# Altium footprint library MyPcbLib.PcbLib: 46 footprints (part 1 of 3)
Each footprint in its own frame and in the unit in brackets; x right, y up, seen from the top. Pads: shape width x height; smd on the part's side, far side on the other; paste and mask are expansions set on the pad; w line width, h text height; cw(c..) or ccw(c..) is an arc to the next point about the centre after c.
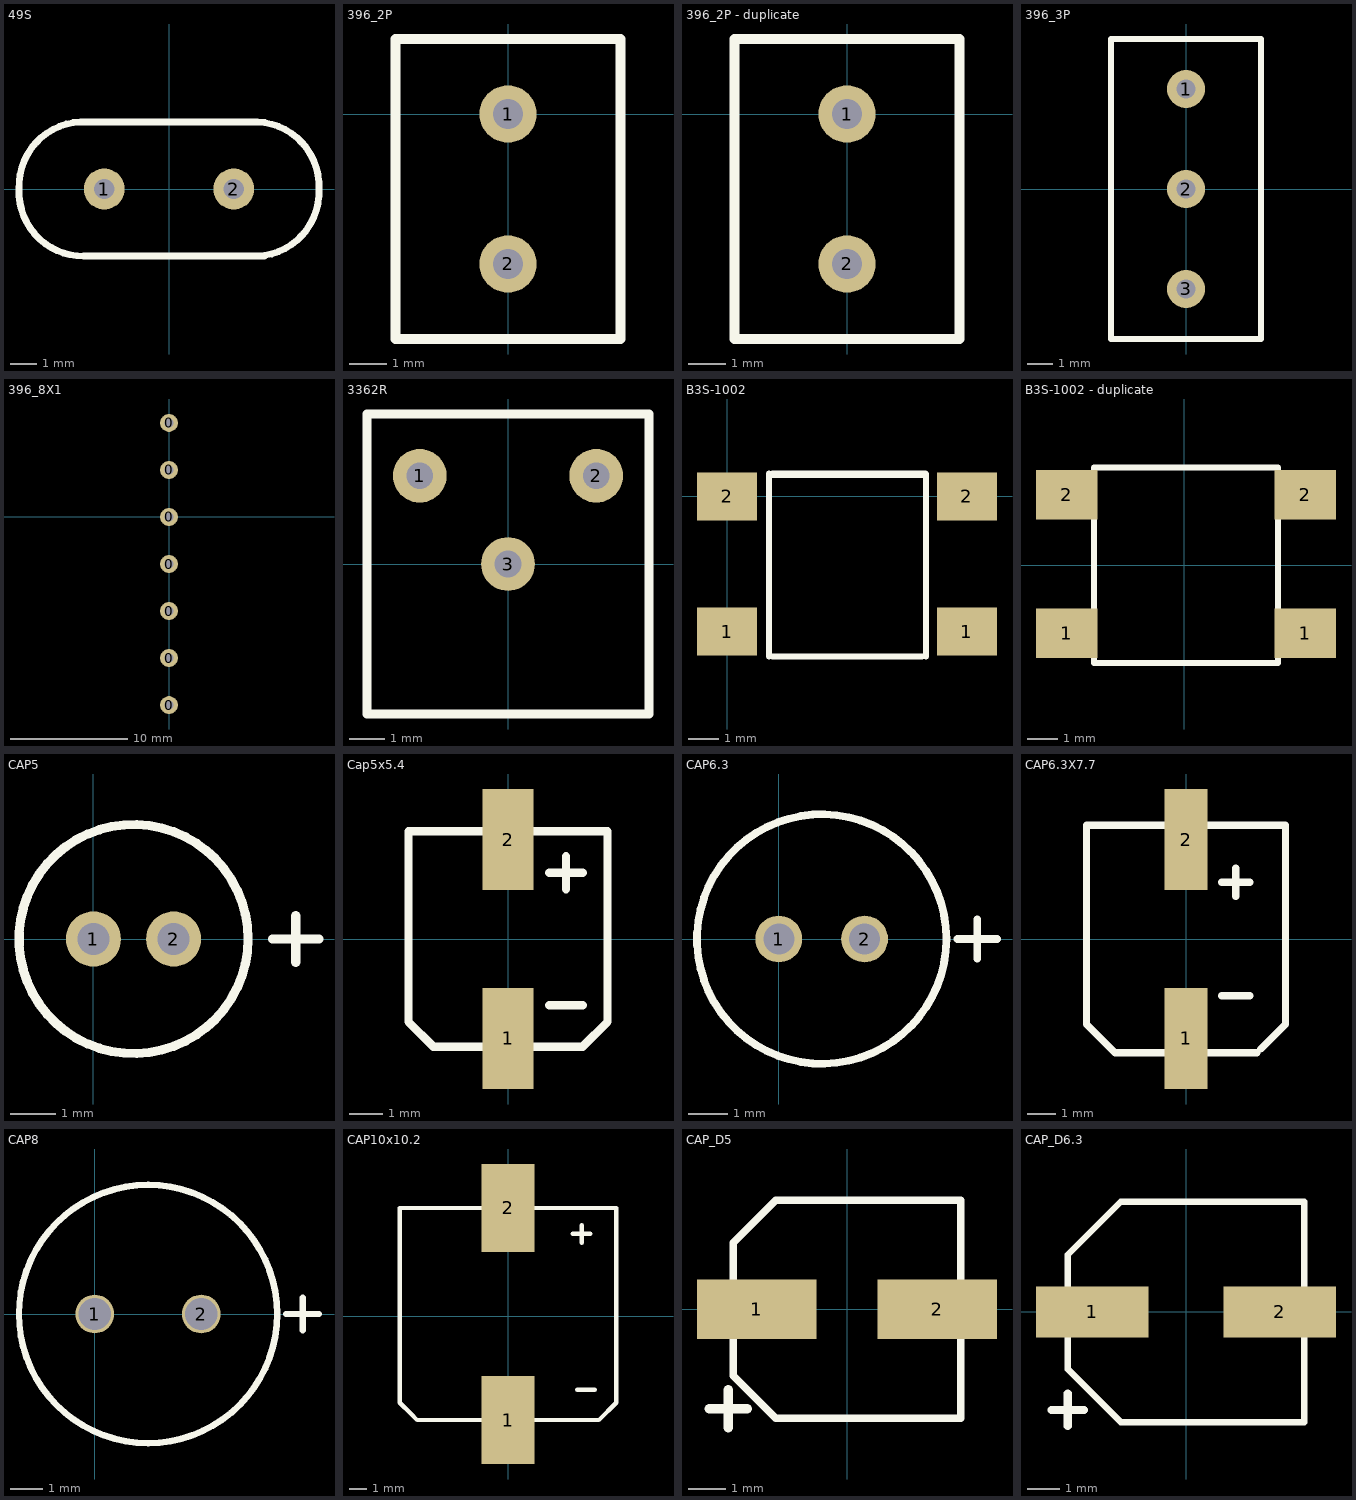
[diagram p0: the footprints below, top view; thin cyan lines are the x and y axes]

## 49S [mil]
pads (2):
  round 60 hole 30: 1(-95,0) 2(95,0)
Top Overlay:
  lines w10: -219.96,0.01 ccw(c-125.77,-4.23) -125,-98.52 ; -219.88,0.01 cw(c-125.69,4.24) -129.92,98.43 130,98.43 cw(c125.77,4.23) 219.96,0 cw(c125.77,-4.23) 130,-98.43 ; -125,-98.43 140,-98.43

## 396_2P [mil]
pads (2):
  round 60 hole 31.5: 1(0,0) 2(0,-157.48)
Top Overlay:
  lines w10: -118.11,-236.22 -118.11,78.74 39.37,78.74 118.11,78.74 118.11,-236.22 -118.11,-236.22

## 396_2P - duplicate [mil]
pads (2):
  round 60 hole 31.5: 1(0,0) 2(0,-157.48)
Top Overlay:
  lines w10: -118.11,-236.22 118.11,-236.22 118.11,78.74 39.37,78.74 -118.11,78.74 -118.11,-236.22

## 396_3P [mil]
pads (3):
  round 60 hole 30: 1(0,157.48) 2(0,0) 3(0,-157.48)
Top Overlay:
  lines w10: -98.43,236.22 118.11,236.22 118.11,-236.22 -118.11,-236.22 -118.11,236.22 0,236.22

## 396_8X1 [mil]
pads (7):
  round 60 hole 30: 0(0,-629.92) 0(0,-472.44) 0(0,-314.96) 0(0,-157.48) 0(0,0) 0(0,157.48) 0(0,314.96)

## 3362R [mil]
height 5
pads (3):
  round 60 hole 30: 1(-98.43,98.43) 2(98.43,98.43) 3(0,0)
Top Overlay:
  lines w10: -157.48,-167.32 157.48,-167.32 157.48,167.32 -157.48,167.32 -157.48,-167.32

## B3S-1002 [mm]
pads (4):
  rect 2x1.6 smd: 1(0,-4.5) 1(8,-4.5) 2(0,0) 2(8,0)
Top Overlay:
  lines w0.2: 1.397,-5.334 1.397,0.762 ; 1.524,-5.334 6.5,-5.334 ; 6.627,-5.334 6.627,0.746
  lines w0.254: 1.524,0.746 6.604,0.746

## B3S-1002 - duplicate [mm]
pads (4):
  rect 2x1.6 smd: 1(-3.81,-2.214) 1(3.936,-2.214) 2(-3.81,2.286) 2(3.936,2.286)
Top Overlay:
  lines w0.2: -2.921,-3.175 3.048,-3.175 3.048,3.175 -2.921,3.175 -2.921,-3.175

## CAP5 [mm]
pads (2):
  round 1.2 hole 0.7: 1(0,0) 2(1.75,0)
Top Overlay:
  circle w0.2: c0.875,0 r2.5
  lines w0.2: 3.907,0 4.923,0 ; 4.415,-0.508 4.415,0.508

## Cap5x5.4 [mil]
height 212.6
pads (2):
  rect 60x120 all layers, no hole: 1(0,-118.11) 2(0,118.11)
Top Overlay:
  lines w10: 49.21,-78.74 88.58,-78.74 ; 49.21,78.74 88.58,78.74 ; 68.9,59.06 68.9,98.43 ; -118.11,-98.43 -118.11,127.95 118.11,127.95 118.11,-98.43 88.58,-127.95 44.29,-127.95 -44.29,-127.95 -88.58,-127.95 -118.11,-98.43

## CAP6.3 [mm]
pads (2):
  round 1.2 hole 0.8: 1(0,0) 2(2.2,0)
Top Overlay:
  circle w0.2: c1.1,0 r3.2
  lines w0.2: 4.582,0 5.598,0 ; 5.09,-0.508 5.09,0.508

## CAP6.3X7.7 [mil]
height 303.15
pads (2):
  rect 60x140 all layers, no hole: 1(0,-137.8) 2(0,137.8)
Top Overlay:
  lines w10: -118.11,-137.8 -98.43,-157.48 98.43,-157.48 ; -113.19,-142.72 -137.8,-118.11 -137.8,157.48 137.8,157.48 137.8,-118.11 103.35,-152.56 ; 49.21,-78.74 88.58,-78.74 ; 49.21,78.74 88.58,78.74 ; 68.9,59.06 68.9,98.43

## CAP8 [mm]
pads (2):
  round 1.2 hole 1: 1(0,0) 2(3.3,0)
Top Overlay:
  circle w0.2: c1.65,0 r4
  lines w0.2: 5.932,0 6.948,0 ; 6.44,-0.508 6.44,0.508

## CAP10x10.2 [mm]
height 10.2
pads (2):
  rect 3.048x5.08 all layers, no hole: 1(0,-6) 2(0,6.25)
Top Overlay:
  lines w0.254: 3.75,4.75 4.75,4.75 ; 4,-4.25 5,-4.25 ; 4.25,4.25 4.25,5.25 ; -6.25,-5 -5.625,-5.625 -5.25,-6 5.25,-6 6.25,-5 6.25,6.25 -6.25,6.25 -6.25,-5

## CAP_D5 [mm]
pads (2):
  rect 3.2x1.6 smd: 1(-2.413,0) 2(2.413,0)
Top Overlay:
  lines w0.2: -3.048,-1.778 -3.048,-0.224 -3.048,1.778 -1.905,2.921 3.048,2.921 3.048,-2.921 -1.905,-2.921 -3.048,-1.778
  lines w0.254: -3.683,-2.667 -2.667,-2.667 ; -3.175,-3.175 -3.175,-2.921 -3.175,-2.159

## CAP_D6.3 [mm]
pads (2):
  rect 3.5x1.6 smd: 1(-2.921,0) 2(2.921,0)
Top Overlay:
  lines w0.2: -3.683,-1.778 -3.683,-0.351 -3.683,1.778 -2.032,3.429 3.683,3.429 3.683,-3.429 -2.032,-3.429 -3.683,-1.778
  lines w0.254: -4.191,-3.048 -3.175,-3.048 ; -3.683,-3.556 -3.683,-3.302 -3.683,-2.54